# Altium footprint library J 接插件.PcbLib: 458 footprints (part 4 of 29)
Each footprint in its own frame and in the unit in brackets; x right, y up, seen from the top. Pads: shape width x height; smd on the part's side, far side on the other; paste and mask are expansions set on the pad; w line width, h text height; cw(c..) or ccw(c..) is an arc to the next point about the centre after c.
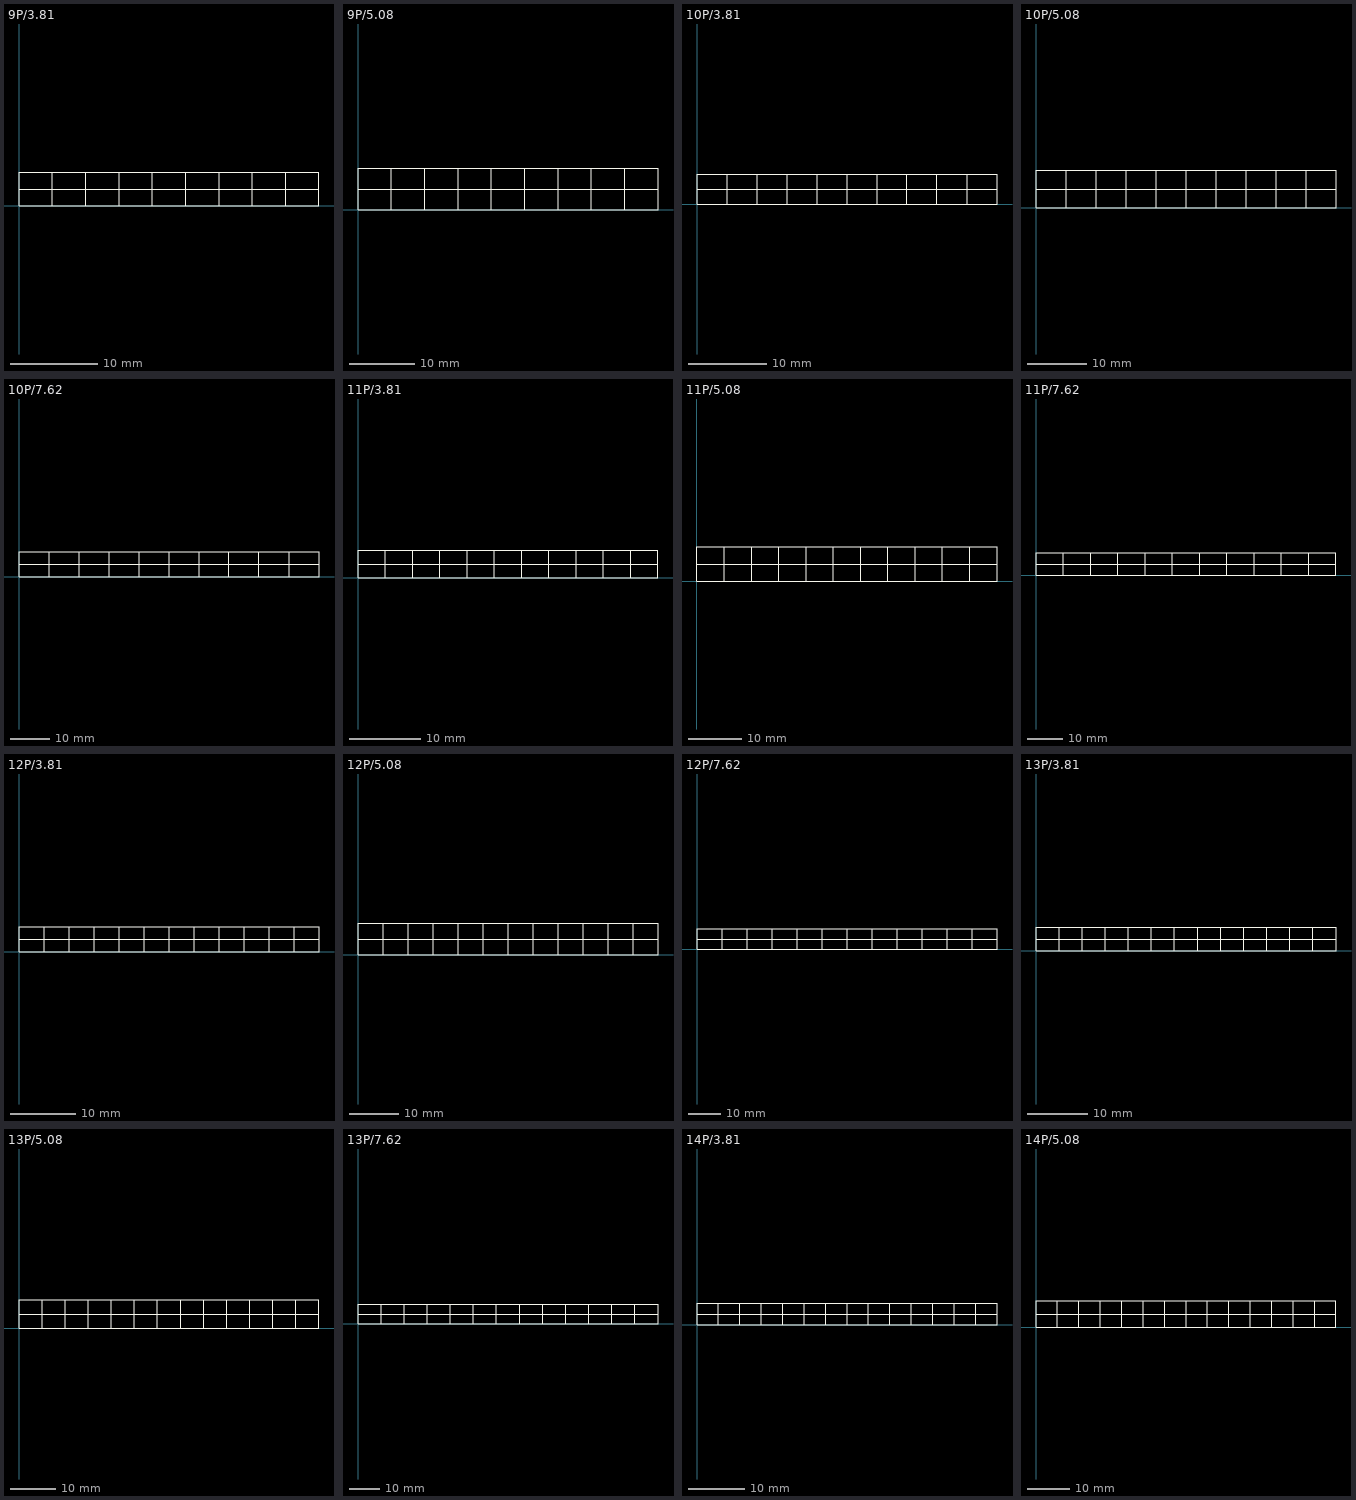
[diagram p3: the footprints below, top view; thin cyan lines are the x and y axes]

## 9P/3.81 [mil] "ͷ"
height 905.51
Top Overlay:
  lines w5: 0,75 1350,75 ; 150,0 150,150 ; 300,0 300,150 ; 450,0 450,150 ; 600,0 600,150 ; 750,0 750,150 ; 900,0 900,150 ; 1050,0 1050,150 ; 1200,0 1200,150 ; 0,0 1350,0 1350,150 0,150 0,0

## 9P/5.08 [mil] "ͷ"
height 393.7
Top Overlay:
  lines w5: 0,125 1800,125 ; 200,0 200,250 ; 400,0 400,250 ; 600,0 600,250 ; 800,0 800,250 ; 1000,0 1000,250 ; 1200,0 1200,250 ; 1400,0 1400,250 ; 1600,0 1600,250 ; 0,0 0,250 1800,250 1800,0 0,0

## 10P/3.81 [mil] "ͷ"
height 905.51
Top Overlay:
  lines w5: 0,75 1500,75 ; 150,0 150,150 ; 300,0 300,150 ; 450,0 450,150 ; 600,0 600,150 ; 750,0 750,150 ; 900,0 900,150 ; 1050,0 1050,150 ; 1200,0 1200,150 ; 1350,0 1350,150 ; 0,0 0,150 1500,150 1500,0 0,0

## 10P/5.08 [mil] "ͷ"
height 393.7
Top Overlay:
  lines w5: 0,125 2000,125 ; 200,0 200,250 ; 400,0 400,250 ; 600,0 600,250 ; 800,0 800,250 ; 1000,0 1000,250 ; 1200,0 1200,250 ; 1400,0 1400,250 ; 1600,0 1600,250 ; 1800,0 1800,250 ; 0,0 2000,0 2000,250 0,250 0,0

## 10P/7.62 [mil] "ͷ"
height 748.03
Top Overlay:
  lines w5: 0,125 3000,125 ; 300,0 300,250 ; 600,0 600,250 ; 900,0 900,250 ; 1200,0 1200,250 ; 1500,0 1500,250 ; 1800,0 1800,250 ; 2100,0 2100,250 ; 2400,0 2400,250 ; 2700,0 2700,250 ; 0,0 0,250 3000,250 3000,0 0,0

## 11P/3.81 [mil] "ͷ"
height 905.51
Top Overlay:
  lines w5: 0,75 1650,75 ; 150,0 150,150 ; 300,0 300,150 ; 450,0 450,150 ; 600,0 600,150 ; 750,0 750,150 ; 900,0 900,150 ; 1050,0 1050,150 ; 1200,0 1200,150 ; 1350,0 1350,150 ; 1500,0 1500,150 ; 0,0 0,150 1650,150 1650,0 0,0

## 11P/5.08 [mil] "ͷ"
height 393.7
Top Overlay:
  lines w5: 0,125 2200,125 ; 200,0 200,250 ; 400,0 400,250 ; 600,0 600,250 ; 800,0 800,250 ; 1000,0 1000,250 ; 1200,0 1200,250 ; 1400,0 1400,250 ; 1600,0 1600,250 ; 1800,0 1800,250 ; 2000,0 2000,250 ; 0,0 2200,0 2200,250 0,250 0,0

## 11P/7.62 [mil] "ͷ"
height 748.03
Top Overlay:
  lines w5: 0,125 3300,125 ; 300,0 300,250 ; 600,0 600,250 ; 900,0 900,250 ; 1200,0 1200,250 ; 1500,0 1500,250 ; 1800,0 1800,250 ; 2100,0 2100,250 ; 2400,0 2400,250 ; 2700,0 2700,250 ; 3000,0 3000,250 ; 0,0 3300,0 3300,250 0,250 0,0

## 12P/3.81 [mil] "ͷ"
height 905.51
Top Overlay:
  lines w5: 0,75 1800,75 ; 150,0 150,150 ; 300,0 300,150 ; 450,0 450,150 ; 600,0 600,150 ; 750,0 750,150 ; 900,0 900,150 ; 1050,0 1050,150 ; 1200,0 1200,150 ; 1350,0 1350,150 ; 1500,0 1500,150 ; 1650,0 1650,150 ; 0,0 1800,0 1800,150 0,150 0,0

## 12P/5.08 [mil] "ͷ"
height 393.7
Top Overlay:
  lines w5: 0,125 2400,125 ; 200,0 200,250 ; 400,0 400,250 ; 600,0 600,250 ; 800,0 800,250 ; 1000,0 1000,250 ; 1200,0 1200,250 ; 1400,0 1400,250 ; 1600,0 1600,250 ; 1800,0 1800,250 ; 2000,0 2000,250 ; 2200,0 2200,250 ; 0,0 0,250 2400,250 2400,0 0,0

## 12P/7.62 [mil] "ͷ"
height 748.03
Top Overlay:
  lines w5: 0,125 3600,125 ; 300,0 300,250 ; 600,0 600,250 ; 900,0 900,250 ; 1200,0 1200,250 ; 1500,0 1500,250 ; 1800,0 1800,250 ; 2100,0 2100,250 ; 2400,0 2400,250 ; 2700,0 2700,250 ; 3000,0 3000,250 ; 3300,0 3300,250 ; 0,0 0,250 3600,250 3600,0 0,0

## 13P/3.81 [mil] "ͷ"
height 905.51
Top Overlay:
  lines w5: 0,75 1950,75 ; 150,0 150,150 ; 300,0 300,150 ; 450,0 450,150 ; 600,0 600,150 ; 750,0 750,150 ; 900,0 900,150 ; 1050,0 1050,150 ; 1200,0 1200,150 ; 1350,0 1350,150 ; 1500,0 1500,150 ; 1650,0 1650,150 ; 1800,0 1800,150 ; 0,0 0,150 1950,150 1950,0 0,0

## 13P/5.08 [mil] "ͷ"
height 393.7
Top Overlay:
  lines w5: 0,125 2600,125 ; 200,0 200,250 ; 400,0 400,250 ; 600,0 600,250 ; 800,0 800,250 ; 1000,0 1000,250 ; 1200,0 1200,250 ; 1400,0 1400,250 ; 1600,0 1600,250 ; 1800,0 1800,250 ; 2000,0 2000,250 ; 2200,0 2200,250 ; 2400,0 2400,250 ; 0,0 2600,0 2600,250 0,250 0,0

## 13P/7.62 [mil] "ͷ"
height 748.03
Top Overlay:
  lines w5: 0,125 3900,125 ; 300,0 300,250 ; 600,0 600,250 ; 900,0 900,250 ; 1200,0 1200,250 ; 1500,0 1500,250 ; 1800,0 1800,250 ; 2100,0 2100,250 ; 2400,0 2400,250 ; 2700,0 2700,250 ; 3000,0 3000,250 ; 3300,0 3300,250 ; 3600,0 3600,250 ; 0,0 0,250 3900,250 3900,0 0,0

## 14P/3.81 [mil] "ͷ"
height 905.51
Top Overlay:
  lines w5: 0,75 2100,75 ; 150,0 150,150 ; 300,0 300,150 ; 450,0 450,150 ; 600,0 600,150 ; 750,0 750,150 ; 900,0 900,150 ; 1050,0 1050,150 ; 1200,0 1200,150 ; 1350,0 1350,150 ; 1500,0 1500,150 ; 1650,0 1650,150 ; 1800,0 1800,150 ; 1950,0 1950,150 ; 0,0 0,150 2100,150 2100,0 0,0

## 14P/5.08 [mil] "ͷ"
height 393.7
Top Overlay:
  lines w5: 0,125 2800,125 ; 200,0 200,250 ; 400,0 400,250 ; 600,0 600,250 ; 800,0 800,250 ; 1000,0 1000,250 ; 1200,0 1200,250 ; 1400,0 1400,250 ; 1600,0 1600,250 ; 1800,0 1800,250 ; 2000,0 2000,250 ; 2200,0 2200,250 ; 2400,0 2400,250 ; 2600,0 2600,250 ; 0,0 2800,0 2800,250 0,250 0,0